# Altium footprint library heatsink.PCBLIB: 35 footprints (part 1 of 3)
Each footprint in its own frame and in the unit in brackets; x right, y up, seen from the top. Pads: shape width x height; smd on the part's side, far side on the other; paste and mask are expansions set on the pad; w line width, h text height; cw(c..) or ccw(c..) is an arc to the next point about the centre after c.
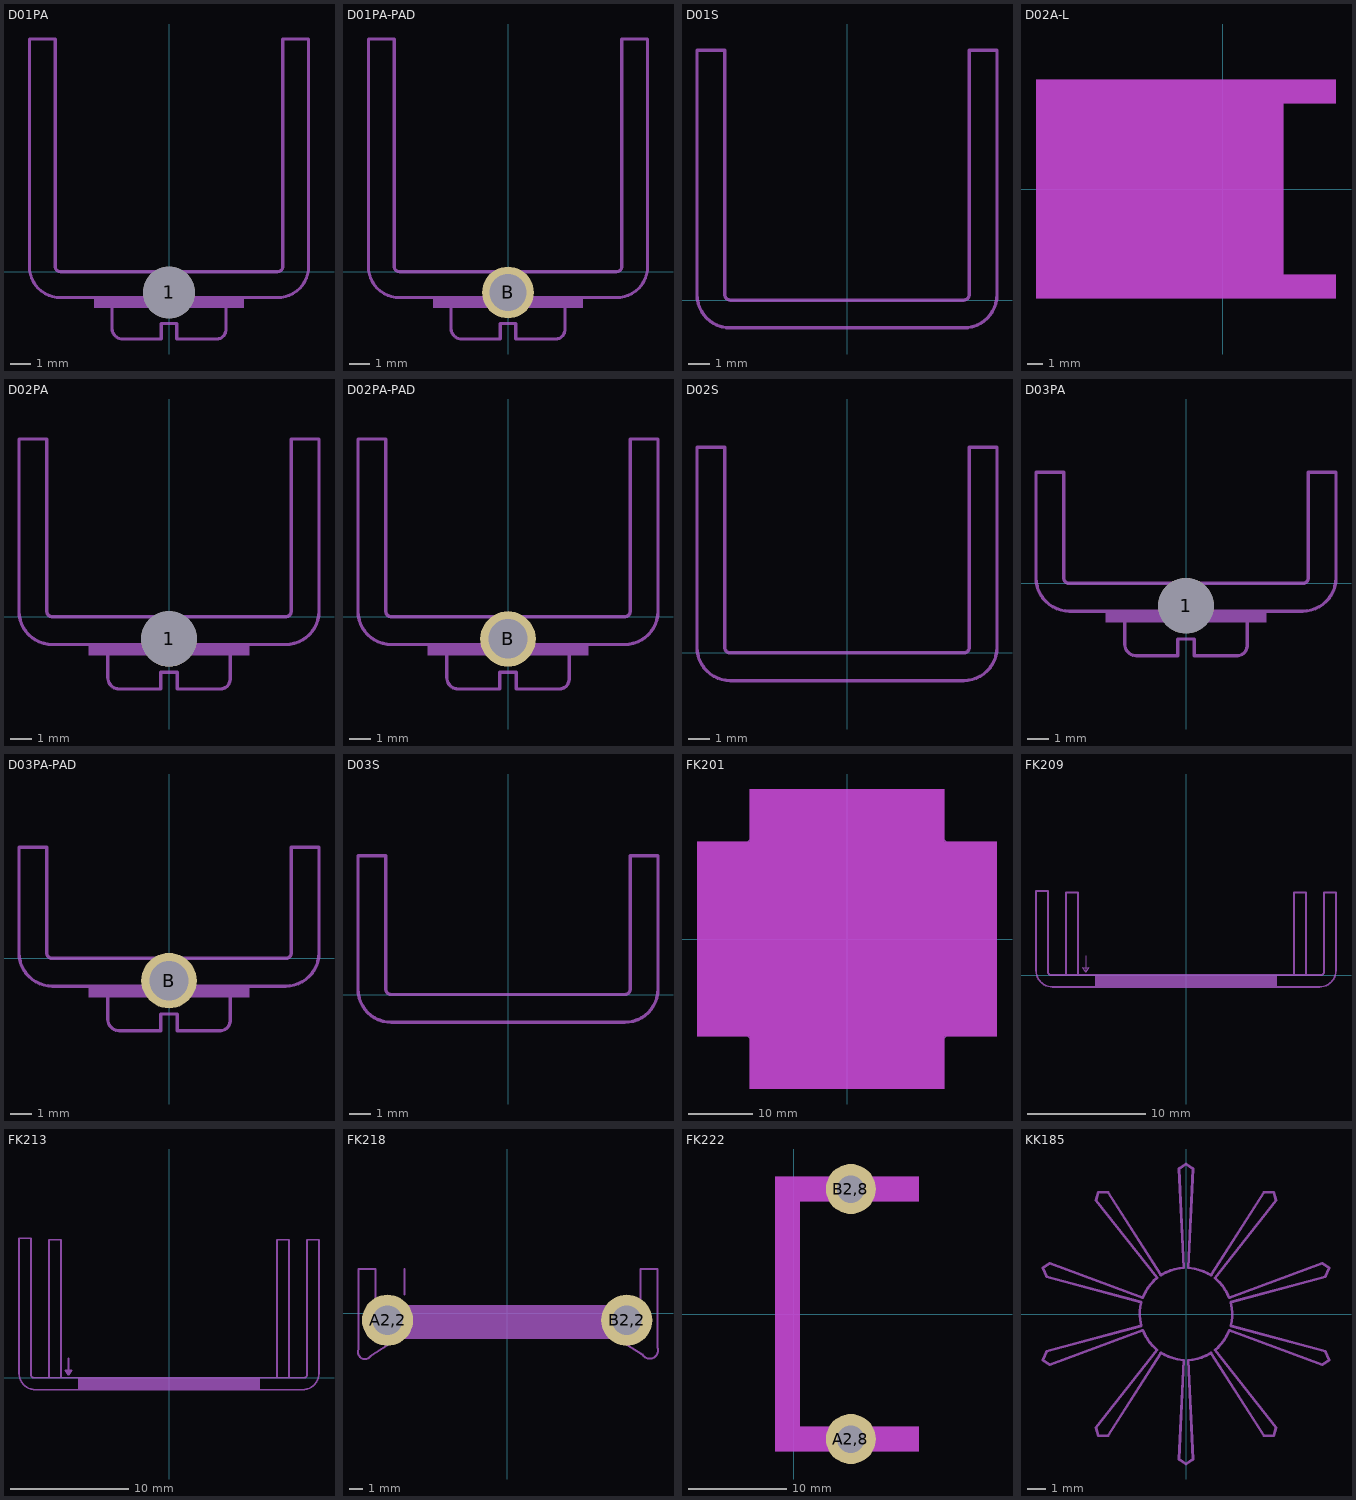
[diagram p0: the footprints below, top view; thin cyan lines are the x and y axes]

## D01PA [mil]
pads (1):
  round 100 hole 100: 1(0,-40)
Mechanical 2:
  rectangle: -145,-70 -55,-50
  rectangle: 55,-70 145,-50
  lines w6: -55,-50 -210,-50 cw(c-210,10) -270,10 -270,450 -220,450 -220,10 ccw(c-210,10) -210,0 -40,0 ; 40,0 210,0 ccw(c210,10) 220,10 220,450 270,450 270,10 cw(c210,10) 210,-50 55,-50
Mechanical 18:
  rectangle: -55,-70 55,-50
  lines w6: -110,-50 -110,-110 ccw(c-90,-110) -90,-130 -15,-130 -15,-100 15,-100 15,-130 90,-130 ccw(c92,-112) 110.04,-110.43 ; -55,-50 55,-50 ; -40,0 40,0 ; 110,-110 110,-50

## D01PA-PAD [mil]
pads (1):
  round 100 hole 71: B(0,-40)
Mechanical 2:
  rectangle: -145,-70 -55,-50
  rectangle: 55,-70 145,-50
  lines w6: -55,-50 -210,-50 cw(c-210,10) -270,10 -270,450 -220,450 -220,10 ccw(c-210,10) -210,0 -40,0 ; 40,0 210,0 ccw(c210,10) 220,10 220,450 270,450 270,10 cw(c210,10) 210,-50 55,-50
Mechanical 18:
  rectangle: -55,-70 55,-50
  lines w6: -110,-50 -110,-110 ccw(c-90,-110) -90,-130 -15,-130 -15,-100 15,-100 15,-130 90,-130 ccw(c92,-112) 110.04,-110.43 ; -55,-50 55,-50 ; -40,0 40,0 ; 110,-110 110,-50

## D01S [mil]
Mechanical 2:
  lines w6: -270,10 -270,450 -220,450 -220,10 ccw(c-210,10) -210,0 210,0 ccw(c210,10) 220,10 220,450 270,450 270,10 cw(c210,10) 210,-50 -210,-50 cw(c-210,10) -270,10

## D02A-L [mil]
Mechanical 2:
  circle w6: c-215,-1 r37
  rectangle: 172,-263 272,-223
  rectangle: 22,-263 122,-223
  rectangle: -128,-263 -28,-223
  rectangle: -278,-263 -178,-223
  rectangle: -453,-263 -328,-223
  rectangle: -453,222 -328,262
  rectangle: -278,222 -178,262
  rectangle: -128,222 -28,262
  rectangle: 22,222 122,262
  rectangle: 172,222 272,262
  lines w6: -265,0 -165,0 ; -215,-51 -215,49 ; -453,-223 -453,-263 272,-263 272,-223 137,-223 ; -453,-223 -453,222 ; -453,-223 137,-223 ; -453,222 -453,262 272,262 272,222 137,222 ; -453,222 137,222 ; 137,-223 137,222
Mechanical 10 keep-out:
  rectangle: -462.6,-271.65 151.57,271.65
  rectangle: 141.73,212.6 281.5,271.65
  rectangle: 141.73,-271.65 281.5,-212.6
Mechanical 12:
  rectangle: -462.6,-271.65 151.57,271.65
  rectangle: 141.73,212.6 281.5,271.65
  rectangle: 141.73,-271.65 281.5,-212.6

## D02PA [mil]
pads (1):
  round 100 hole 100: 1(0,-40)
Mechanical 2:
  rectangle: -145,-70 -55,-50
  rectangle: 55,-70 145,-50
  lines w6: -55,-50 -210,-50 cw(c-210,10) -270,10 -270,320 -220,320 -220,10 ccw(c-210,10) -210,0 -40,0 ; 40,0 210,0 ccw(c210,10) 220,10 220,320 270,320 270,10 cw(c210,10) 210,-50 55,-50
Mechanical 18:
  rectangle: -55,-70 55,-50
  lines w6: -110,-50 -110,-110 ccw(c-90,-110) -90,-130 -15,-130 -15,-100 15,-100 15,-130 90,-130 ccw(c92,-112) 110.04,-110.43 ; -55,-50 55,-50 ; -40,0 40,0 ; 110,-110 110,-50

## D02PA-PAD [mil]
pads (1):
  round 100 hole 71: B(0,-40)
Mechanical 2:
  rectangle: -145,-70 -55,-50
  rectangle: 55,-70 145,-50
  lines w6: -55,-50 -210,-50 cw(c-210,10) -270,10 -270,320 -220,320 -220,10 ccw(c-210,10) -210,0 -40,0 ; 40,0 210,0 ccw(c210,10) 220,10 220,320 270,320 270,10 cw(c210,10) 210,-50 55,-50
Mechanical 18:
  rectangle: -55,-70 55,-50
  lines w6: -110,-50 -110,-110 ccw(c-90,-110) -90,-130 -15,-130 -15,-100 15,-100 15,-130 90,-130 ccw(c92,-112) 110.04,-110.43 ; -55,-50 55,-50 ; -40,0 40,0 ; 110,-110 110,-50

## D02S [mil]
Mechanical 2:
  lines w6: -270,10 -270,370 -220,370 -220,10 ccw(c-210,10) -210,0 210,0 ccw(c210,10) 220,10 220,370 270,370 270,10 cw(c210,10) 210,-50 -210,-50 cw(c-210,10) -270,10

## D03PA [mil]
pads (1):
  round 100 hole 100: 1(0,-40)
Mechanical 2:
  rectangle: -145,-70 -55,-50
  rectangle: 55,-70 145,-50
  lines w6: -55,-50 -210,-50 cw(c-210,10) -270,10 -270,200 -220,200 -220,10 ccw(c-210,10) -210,0 -40,0 ; 40,0 210,0 ccw(c210,10) 220,10 220,200 270,200 270,10 cw(c210,10) 210,-50 55,-50
Mechanical 18:
  rectangle: -55,-70 55,-50
  lines w6: -110,-50 -110,-110 ccw(c-90,-110) -90,-130 -15,-130 -15,-100 15,-100 15,-130 90,-130 ccw(c92,-112) 110.04,-110.43 ; -55,-50 55,-50 ; -40,0 40,0 ; 110,-110 110,-50

## D03PA-PAD [mil]
pads (1):
  round 100 hole 71: B(0,-40)
Mechanical 2:
  rectangle: -145,-70 -55,-50
  rectangle: 55,-70 145,-50
  lines w6: -55,-50 -210,-50 cw(c-210,10) -270,10 -270,200 -220,200 -220,10 ccw(c-210,10) -210,0 -40,0 ; 40,0 210,0 ccw(c210,10) 220,10 220,200 270,200 270,10 cw(c210,10) 210,-50 55,-50
Mechanical 18:
  rectangle: -55,-70 55,-50
  lines w6: -110,-50 -110,-110 ccw(c-90,-110) -90,-130 -15,-130 -15,-100 15,-100 15,-130 90,-130 ccw(c92,-112) 110.04,-110.43 ; -55,-50 55,-50 ; -40,0 40,0 ; 110,-110 110,-50

## D03S [mil]
Mechanical 2:
  lines w6: -270,10 -270,250 -220,250 -220,10 ccw(c-210,10) -210,0 210,0 ccw(c210,10) 220,10 220,250 270,250 270,10 cw(c210,10) 210,-50 -210,-50 cw(c-210,10) -270,10

## FK201 [mil]
Mechanical 2:
  circle w6: c-420,420 r85
  circle w6: c420,-420 r85
  rectangle: -330,690 -150,790
  rectangle: -570,790 -390,890
  rectangle: -790,150 -690,330
  rectangle: -890,390 -790,570
  rectangle: 150,-790 330,-690
  rectangle: 390,-890 570,-790
  rectangle: 690,-330 790,-150
  rectangle: 790,-570 890,-390
  rectangle: -790,-330 -690,-150
  rectangle: -890,-570 -790,-390
  rectangle: -890,-90 -790,90
  rectangle: -330,-790 -150,-690
  rectangle: -90,-890 90,-790
  rectangle: -570,-890 -390,-790
  rectangle: 690,150 790,330
  rectangle: 790,390 890,570
  rectangle: 790,-90 890,90
  rectangle: 150,690 330,790
  rectangle: -90,790 90,890
  rectangle: 390,790 570,890
  lines w6: -885,-570 -690,-570 cw(c-690,-690) -570,-690 -570,-885 ; -885,-390 -660,-390 ccw(c-660,-360) -660,-330 -785,-330 ; -885,-90 -660,-90 cw(c-660,-120) -660,-150 -785,-150 ; -885,90 -660,90 ccw(c-660,120) -660,150 -785,150 ; -885,390 -660,390 cw(c-660,360) -660,330 -785,330 ; -885,570 -690,570 ccw(c-690,690) -570,690 -570,885 ; -390,-885 -390,-660 cw(c-360,-660) -330,-660 -330,-785 ; -390,885 -390,660 ccw(c-360,660) -330,660 -330,785 ; -150,-785 -150,-660 cw(c-120,-660) -90,-660 -90,-885 ; -150,785 -150,660 ccw(c-120,660) -90,660 -90,885 ; 90,-885 90,-660 cw(c120,-660) 150,-660 150,-785 ; 90,885 90,660 ccw(c120,660) 150,660 150,785 ; 330,-785 330,-660 cw(c360,-660) 390,-660 390,-885 ; 330,785 330,660 ccw(c360,660) 390,660 390,885 ; 570,-885 570,-690 cw(c690,-690) 690,-570 885,-570 ; 570,885 570,690 ccw(c690,690) 690,570 885,570 ; 785,-330 660,-330 ccw(c660,-360) 660,-390 885,-390 ; 785,-150 660,-150 cw(c660,-120) 660,-90 885,-90 ; 785,150 660,150 ccw(c660,120) 660,90 885,90 ; 785,330 660,330 cw(c660,360) 660,390 885,390
Mechanical 10 keep-out:
  rectangle: -600,-925 600,925
  rectangle: -925,-600 925,600
Mechanical 12:
  rectangle: -600,-925 600,925
  rectangle: -925,-600 925,600

## FK209 [mil]
Mechanical 2:
  rectangle: -300,-40 300,0
  lines w2: -335,65 -335,25 ; -335,10 -335,25 ; -335,10 -325,25 -335,25 ; -335,10 -345,25 -335,25
  lines w6: -400,0 -360,0 ; -400,0 -450,0 cw(c-450,10) -460,10 -460,280 -500,280 -500,15 ccw(c-445,15) -445,-40 -300,-40 ; -400,0 -400,275 -360,275 -360,0 ; -360,0 -300,0 ; -300,-40 300,-40 ; -300,-40 -300,0 ; -300,0 300,0 ; 300,-40 445,-40 ccw(c445,15) 500,15 500,275 460,275 460,10 cw(c450,10) 450,0 400,0 ; 300,-40 300,0 ; 300,0 360,0 ; 360,0 400,0 ; 360,0 360,275 400,275 400,0

## FK213 [mil]
Mechanical 2:
  rectangle: -300,-40 300,0
  lines w6: -335,65 -335,25 ; -400,0 -360,0 ; -400,0 -450,0 cw(c-450,10) -460,10 -460,465 -500,465 -500,15 ccw(c-445,15) -445,-40 -300,-40 ; -400,0 -400,460 -360,460 -360,0 ; -360,0 -300,0 ; -335,10 -335,25 ; -335,10 -325,25 -335,25 ; -335,10 -345,25 -335,25 ; -300,-40 300,-40 ; -300,-40 -300,0 ; -300,0 300,0 ; 300,-40 445,-40 ccw(c445,15) 500,15 500,460 460,460 460,10 cw(c450,10) 450,0 400,0 ; 300,-40 300,0 ; 300,0 360,0 ; 360,0 400,0 ; 360,0 360,460 400,460 400,0

## FK218 [mil]
pads (2):
  round 150 hole 87: A2,2(-350,-20) B2,2(350,-20)
Mechanical 2:
  region: 0,0 10,0 10,10 0,10
  lines w6: -435,-105 -435,130 -385,130 -385,50 ; -434.67,-105.13 ccw(c-416.15,-113.31) -399.61,-125 ; -300,55 -300,65 -300,130 ; -275,-45 275,-45 ; -275,0 275,0 ; 390,45 390,130 440,130 440,-100 cw(c417,-108.2) 395.67,-120.08
Mechanical 12:
  rectangle: -300,-75 300,25
Mechanical 18:
  lines w6: -400,-125 -275,-45 ; -385,50 -385,0 ; 390,45 390,0 ; 395,-120 275,-45 ; -385,-45 -385,0 ; -385,-45 -345,-45 ; -385,-45 -385,-65 -345,-45 ; -385,0 -275,0 -275,-45 ; -345,-45 -275,-45 ; 275,-45 275,0 390,0 ; 275,-45 355,-45 ; 355,-45 390,-45 ; 355,-45 390,-65 390,-45 ; 390,-45 390,0

## FK222 [mil]
pads (2):
  round 200 hole 110: A2,8(228,-500) B2,8(228,500)
Mechanical 2:
  rectangle: -40,-480 0,480
  rectangle: -40,-520 120,-480
  rectangle: 335,-520 460,-480
  rectangle: 335,480 460,520
  rectangle: -40,480 120,520
  lines w6: -40,-520 -40,520 120,520 120,480 0,480 0,-480 120,-480 120,-520 -40,-520 ; 335,-520 335,-480 460,-480 460,-520 335,-520 ; 335,480 460,480 460,520 335,520 335,480
Mechanical 10 keep-out:
  rectangle: -75,450 500,550
  rectangle: -75,-550 25,550
  rectangle: -75,-550 500,-450
Mechanical 12:
  rectangle: -75,450 500,550
  rectangle: -75,-550 25,550
  rectangle: -75,-550 500,-450
Mechanical 18:
  rectangle: 120,-520 335,-480
  rectangle: 120,480 335,520
  lines w6: 120,-520 335,-520 ; 120,-480 335,-480 ; 120,480 335,480 ; 120,520 335,520

## KK185 [mil]
Mechanical 2:
  lines w6: -98,-26 -302,-81 -310,-100 -295,-110 -94,-35 ; -98,26 -302,81 -310,100 -295,110 -94,35 -88,47 -83,56 -76,65 -70,72 -63,78 ; -97,-25 -99,-13 -100,-3 -100,6 -99,16 -97,25 ; -93,-36 -91,-41 -88,-47 -83,-55 -79,-61 -73,-68 -63,-78 -195,-246 -190,-264 -169,-264 -55,-85 ; -63,79 -195,246 -190,264 -169,264 -55,85 ; -54,-84 -47,-88 -39,-92 -30,-95 -19,-98 -5,-100 -15,-315 0,-325 15,-315 5,-100 14,-99 25,-97 34,-94 44,-90 51,-86 54,-84 169,-264 190,-264 195,-246 63,-78 70,-72 76,-65 83,-56 88,-47 94,-35 295,-110 310,-100 302,-81 98,-26 ; -54,84 -51,86 -44,90 -34,94 -25,97 -14,99 -5,100 -15,315 0,325 15,315 5,100 19,98 30,95 39,92 47,88 54,84 ; 55,85 169,264 190,264 195,246 63,78 73,68 79,61 83,55 88,47 91,41 93,36 ; 94,35 295,110 310,100 302,81 98,26 ; 97,-25 99,-16 100,-6 100,3 99,13 97,25